# Altium schematic symbol library SW PUSH TL3315.SchLib: 1 symbol
Pins are listed as number, name and electrical type; pins without a type are passive.

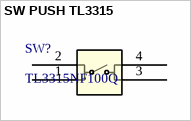
[diagram p0: symbol SW PUSH TL3315]

## SW PUSH TL3315
designator SW?, comment TL3315NF100Q
Tactile Switch SPST-NO Top Actuated Surface Mount, 0.55mm Height; Mfr_Name: E-Switch; Copyright: Copyright (C) 2022 Ultra Librarian. All rights reserved.; Manufacturer_Part_Number: TL3315NF100Q; Digi-Key_Part_Number_1: EG4620TR-ND; Digi-Key_Part_Number_2: EG4620CT-ND; Digi-Key_Part_Number_3: EG4620DKR-ND; RefDes: RefDes; Type: DEV; Supplier 1: Digi-Key; Supplier Part Number 1: EG4620CT-ND
footprint SW_TL3315NF100Q
pins: 1, 2, 3, 4